# Altium footprint library Inductor_SMD.PcbLib: 37 footprints (part 2 of 3)
Each footprint in its own frame and in the unit in brackets; x right, y up, seen from the top. Pads: shape width x height; smd on the part's side, far side on the other; paste and mask are expansions set on the pad; w line width, h text height; cw(c..) or ccw(c..) is an arc to the next point about the centre after c.
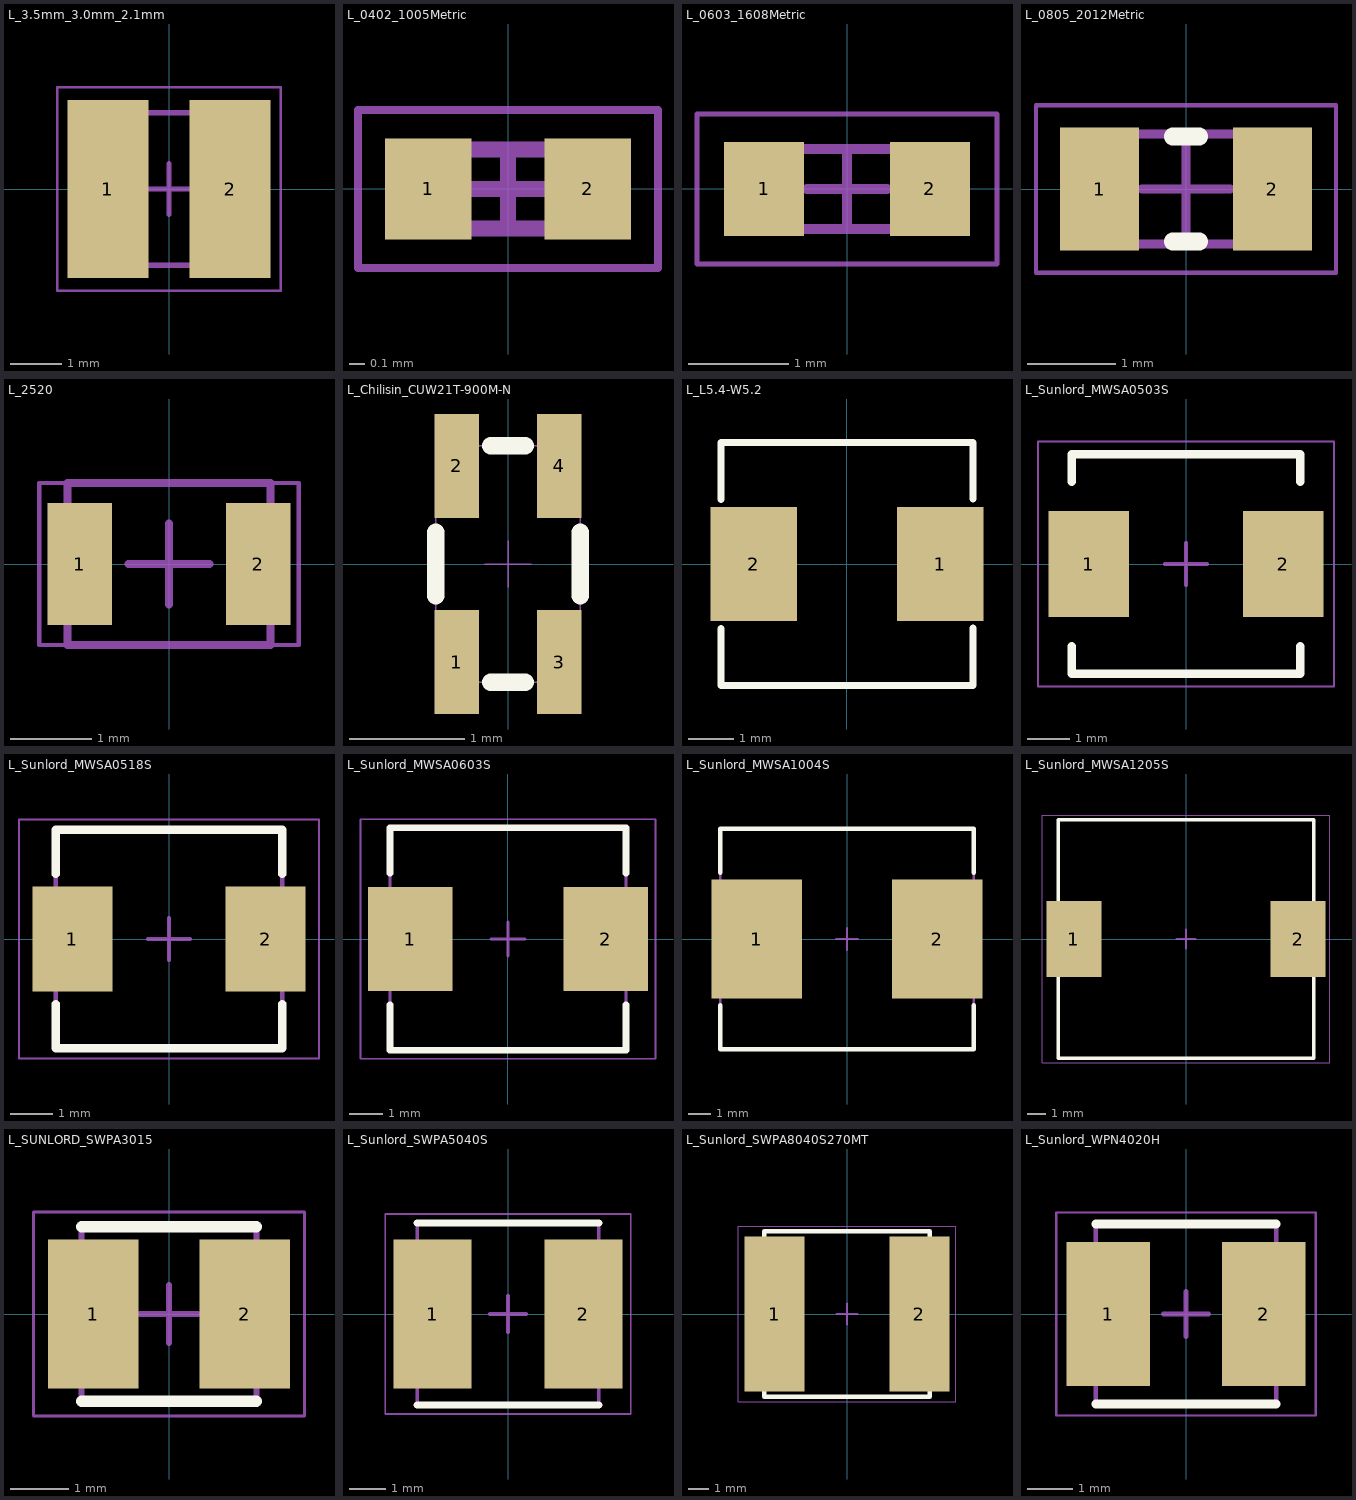
[diagram p1: the footprints below, top view; thin cyan lines are the x and y axes]

## L_3.5mm_3.0mm_2.1mm [mm] "Precision Wire Wound Inductor, 2-Leads, Body 3.50x3.00mm, IPC Medium Density"
height 2.1
pads (2):
  rect 1.6x3.5 smd: 1(-1.2,0) 2(1.2,0)
Mechanical 13:
  lines w0.1: -1.75,-1.5 1.75,-1.5 1.75,1.5 -1.75,1.5 -1.75,-1.5
Mechanical 15:
  lines w0.05: -2.2,-2 2.2,-2 2.2,2 -2.2,2 -2.2,-2
  lines w0.1: -0.5,0 0.5,0 ; 0,-0.5 0,0.5
3D body "INDP3530X21N.step": height 2.2, standoff 0, extent -1.85,-1.5 1.85,1.5

## L_0402_1005Metric [mm] "Chip Inductor, 2-Leads, Body 1.00x0.50mm, IPC Medium Density"
height 0.5
pads (2):
  rect 0.55x0.64 smd: 1(-0.505,0) 2(0.505,0)
Mechanical 13:
  lines w0.1: -0.5,-0.25 -0.5,0.25 0.5,0.25 0.5,-0.25 -0.5,-0.25
Mechanical 15:
  lines w0.05: -0.95,-0.5 -0.95,0.5 0.95,0.5 0.95,-0.5 -0.95,-0.5
  lines w0.1: -0.25,0 0.25,0 ; 0,-0.25 0,0.25
3D body: height 0.5, standoff 0, extent -0.3,-0.25 0.3,0.25
3D body: height 0.5, standoff 0, extent -0.5,-0.25 -0.3,0.25
3D body: height 0.5, standoff 0, extent 0.3,-0.25 0.5,0.25

## L_0603_1608Metric [mm] "Chip Inductor, 2-Leads, Body 1.60x0.80mm, IPC Medium Density"
height 0.8
pads (2):
  rect 0.8x0.94 smd: 1(-0.83,0) 2(0.83,0)
Mechanical 13:
  lines w0.1: -0.8,-0.4 -0.8,0.4 0.8,0.4 0.8,-0.4 -0.8,-0.4
Mechanical 15:
  lines w0.05: -1.5,-0.75 -1.5,0.75 1.5,0.75 1.5,-0.75 -1.5,-0.75
  lines w0.1: -0.4,0 0.4,0 ; 0,-0.4 0,0.4
3D body: height 0.8, standoff 0, extent -0.5,-0.4 0.5,0.4
3D body: height 0.8, standoff 0, extent -0.8,-0.4 -0.5,0.4
3D body: height 0.8, standoff 0, extent 0.5,-0.4 0.8,0.4

## L_0805_2012Metric [mm] "Chip Inductor, 2-Leads, Body 2.00x1.25mm, IPC Medium Density"
height 0.9
pads (2):
  rect 0.9x1.39 smd: 1(-0.98,0) 2(0.98,0)
Top Overlay:
  lines w0.2: -0.15,-0.595 0.15,-0.595 ; -0.15,0.595 0.15,0.595
Mechanical 13:
  lines w0.1: -1,-0.625 -1,0.625 1,0.625 1,-0.625 -1,-0.625
Mechanical 15:
  lines w0.05: -1.7,-0.95 -1.7,0.95 1.7,0.95 1.7,-0.95 -1.7,-0.95
  lines w0.1: -0.5,0 0.5,0 ; 0,-0.5 0,0.5
3D body: height 0.9, standoff 0, extent -0.6,-0.625 0.6,0.625
3D body: height 0.9, standoff 0, extent -1,-0.625 -0.6,0.625
3D body: height 0.9, standoff 0, extent 0.6,-0.625 1,0.625

## L_2520 [mm] "Precision Wire Wound Inductor, 2-Leads, Body 2.50x2.00mm, IPC Medium Density"
height 1.2
pads (2):
  rect 0.8x1.5 smd: 1(-1.1,0) 2(1.1,0)
Mechanical 13:
  lines w0.1: -1.25,-1 1.25,-1 1.25,1 -1.25,1 -1.25,-1
Mechanical 15:
  lines w0.05: -1.6,-1 1.6,-1 1.6,1 -1.6,1 -1.6,-1
  lines w0.1: -0.5,0 0.5,0 ; 0,-0.5 0,0.5
3D body "User Library-INDM2520X190N.STEP": height 1.8, standoff 0, extent -1.25,-1 1.25,1

## L_Chilisin_CUW21T-900M-N [mm]
pads (4):
  rect 0.385x0.9 smd: 1(-0.443,-0.85) 2(-0.443,0.85) 3(0.443,-0.85) 4(0.443,0.85)
Top Overlay:
  lines w0.152: -0.625,-0.275 -0.625,0.275 ; -0.15,-1.025 0.15,-1.025 ; -0.15,1.025 0.15,1.025 ; 0.625,-0.275 0.625,0.275
Mechanical 13:
  lines w0.013: -0.625,-1.025 0.625,-1.025 0.625,1.025 -0.625,1.025 -0.625,-1.025
Mechanical 15:
  lines w0.013: -0.2,0 0.2,0 ; 0,-0.2 0,0.2
3D body: height 1.25, standoff 0, extent -0.625,-1.025 0.625,1.025

## L_L5.4-W5.2 [mm]
pads (2):
  rect 1.9x2.5 smd: 1(2.05,0) 2(-2.05,0)
Top Overlay:
  lines w0.152: -2.775,-1.42 -2.776,-2.676 2.776,-2.676 2.775,-1.41 ; -2.775,1.42 -2.776,2.676 2.776,2.676 2.775,1.43
3D body "L1.stp": height 1.6, standoff 0, extent -2.7,-2.6 2.7,2.6

## L_Sunlord_MWSA0503S [mm] "Precision Wire Wound Inductor, 2-Leads, Body 7.00x6.60mm, IPC Medium Density"
height 2.8
pads (2):
  rect 1.9x2.5 smd: 1(-2.3,0) 2(2.3,0)
Top Overlay:
  lines w0.2: -2.7,-1.95 -2.7,-2.6 2.7,-2.6 2.7,-1.95 ; -2.7,1.95 -2.7,2.6 2.7,2.6 2.7,1.95
Mechanical 15:
  lines w0.05: -3.5,-2.9 -3.5,2.9 3.5,2.9 3.5,-2.9 -3.5,-2.9
  lines w0.1: -0.5,0 0.5,0 ; 0,-0.5 0,0.5
3D body "L1.stp": height 1.6, standoff 0, extent -2.7,-2.6 2.7,2.6

## L_Sunlord_MWSA0518S [mm] "Precision Wire Wound Inductor, 2-Leads, Body 5.40x5.20mm, IPC Medium Density"
height 1.6
pads (2):
  rect 1.9x2.5 smd: 1(-2.3,0) 2(2.3,0)
Top Overlay:
  lines w0.2: -2.7,-1.55 -2.7,-2.6 2.7,-2.6 2.7,-1.55 ; -2.7,1.55 -2.7,2.6 2.7,2.6 2.7,1.55
Mechanical 13:
  lines w0.1: -2.7,-2.6 -2.7,2.6 2.7,2.6 2.7,-2.6 -2.7,-2.6
Mechanical 15:
  lines w0.05: -3.575,-2.85 -3.575,2.85 3.575,2.85 3.575,-2.85 -3.575,-2.85
  lines w0.1: -0.5,0 0.5,0 ; 0,-0.5 0,0.5
3D body "IND-SMD_L5.4-W5.2_FXL0530.stp": height 2.81, standoff 0, extent -2.7,-2.6 2.7,2.6

## L_Sunlord_MWSA0603S [mm] "Precision Wire Wound Inductor, 2-Leads, Body 7.00x6.60mm, IPC Medium Density"
height 2.8
pads (2):
  rect 2.5x3.1 smd: 1(-2.9,0) 2(2.9,0)
Top Overlay:
  lines w0.2: -3.5,-1.95 -3.5,-3.3 3.5,-3.3 3.5,-1.95 ; -3.5,1.95 -3.5,3.3 3.5,3.3 3.5,1.95
Mechanical 13:
  lines w0.1: -3.5,-3.3 3.5,-3.3 3.5,3.3 -3.5,3.3 -3.5,-3.3
Mechanical 15:
  lines w0.05: -4.375,-3.55 4.375,-3.55 4.375,3.55 -4.375,3.55 -4.375,-3.55
  lines w0.1: -0.5,0 0.5,0 ; 0,-0.5 0,0.5
3D body: height 2.8, standoff 0, extent -3.5,-3.3 3.5,3.3

## L_Sunlord_MWSA1004S [mm] "Precision Wire Wound Inductor, 2-Leads, Body 7.00x6.60mm, IPC Medium Density"
height 2.8
pads (2):
  rect 4.1x5.4 smd: 1(-4.1,0) 2(4.1,0)
Top Overlay:
  lines w0.2: -5.75,-3 -5.75,-5 5.75,-5 5.75,-3 ; -5.75,3 -5.75,5 5.75,5 5.75,3
Mechanical 13:
  lines w0.1: -5.75,-5 -5.75,5 5.75,5 5.75,-5 -5.75,-5
Mechanical 15:
  lines w0.05: -5.75,-5 -5.75,5 5.75,5 5.75,-5 -5.75,-5
  lines w0.1: -0.5,0 0.5,0 ; 0,-0.5 0,0.5
3D body "L1.stp": height 5.01, standoff 0, extent -5.75,-5 5.75,5

## L_Sunlord_MWSA1205S [mm] "Precision Wire Wound Inductor, 2-Leads, Body 13.45x12.60mm, IPC Medium Density"
height 4.8
pads (2):
  rect 2.9x4 smd: 1(-5.925,0) 2(5.925,0)
Top Overlay:
  lines w0.2: -6.75,-1.95 -6.75,-6.3 6.75,-6.3 6.75,-1.95 ; -6.75,1.95 -6.75,6.3 6.75,6.3 6.75,1.95
Mechanical 13:
  lines w0.1: -6.725,-6.3 -6.725,6.3 6.725,6.3 6.725,-6.3 -6.725,-6.3
Mechanical 15:
  lines w0.05: -7.6,-6.55 -7.6,6.55 7.6,6.55 7.6,-6.55 -7.6,-6.55
  lines w0.1: -0.5,0 0.5,0 ; 0,-0.5 0,0.5
3D body "srr1260-120m.stp": height 6, standoff 0, extent -6.25,-6.25 6.25,6.25

## L_SUNLORD_SWPA3015 [mm] "Molded Inductor, 2-Leads, Body 3.00x3.00mm, IPC Medium Density"
height 1.5
pads (2):
  rect 1.55x2.55 smd: 1(-1.3,0) 2(1.3,0)
Top Overlay:
  lines w0.2: -1.5,-1.5 1.5,-1.5 ; -1.5,1.5 1.5,1.5
Mechanical 13:
  lines w0.1: -1.5,-1.5 1.5,-1.5 1.5,1.5 -1.5,1.5 -1.5,-1.5
Mechanical 15:
  lines w0.05: -2.325,-1.75 2.325,-1.75 2.325,1.75 -2.325,1.75 -2.325,-1.75
  lines w0.1: -0.5,0 0.5,0 ; 0,-0.5 0,0.5
3D body "User Library-nr3015.STEP": height 1.45, standoff -0.04, extent -1.5,-1.5 1.5,1.5

## L_Sunlord_SWPA5040S [mm] "Precision Wire Wound Inductor, 2-Leads, Body 5.00x5.00mm, IPC Medium Density"
height 4
pads (2):
  rect 2.15x4.1 smd: 1(-2.075,0) 2(2.075,0)
Top Overlay:
  lines w0.2: -2.5,-2.5 2.5,-2.5 ; -2.5,2.5 2.5,2.5
Mechanical 13:
  lines w0.1: -2.5,-2.5 -2.5,2.5 2.5,2.5 2.5,-2.5 -2.5,-2.5
Mechanical 15:
  lines w0.05: -3.375,-2.75 -3.375,2.75 3.375,2.75 3.375,-2.75 -3.375,-2.75
  lines w0.1: -0.5,0 0.5,0 ; 0,-0.5 0,0.5
3D body "User Library-SRN5040.STEP": height 4, standoff 0, extent -2.5,-2.5 2.5,2.5

## L_Sunlord_SWPA8040S270MT [mm] "Precision Wire Wound Inductor, 2-Leads, Body 8.00x8.00mm, IPC Medium Density"
height 4.2
pads (2):
  rect 2.9x7.5 smd: 1(-3.5,0) 2(3.5,0)
Top Overlay:
  lines w0.2: -4,-3.6 -4,-4 4,-4 4,-3.6 ; -4,3.6 -4,4 4,4 4,3.6
Mechanical 13:
  lines w0.1: -4,-4 -4,4 4,4 4,-4 -4,-4
Mechanical 15:
  lines w0.05: -5.25,-4.25 -5.25,4.25 5.25,4.25 5.25,-4.25 -5.25,-4.25
  lines w0.1: -0.5,0 0.5,0 ; 0,-0.5 0,0.5
3D body "INDP8080X42N.step": height 4.3, standoff 0, extent -4.1,-4 4.1,4

## L_Sunlord_WPN4020H [mm] "Precision Wire Wound Inductor, 2-Leads, Body 4.00x4.00mm, IPC Medium Density"
height 2
pads (2):
  rect 1.85x3.2 smd: 1(-1.725,0) 2(1.725,0)
Top Overlay:
  lines w0.2: -2,-2 2,-2 ; -2,2 2,2
Mechanical 13:
  lines w0.1: -2,-2 -2,2 2,2 2,-2 -2,-2
Mechanical 15:
  lines w0.05: -2.875,-2.25 -2.875,2.25 2.875,2.25 2.875,-2.25 -2.875,-2.25
  lines w0.1: -0.5,0 0.5,0 ; 0,-0.5 0,0.5
3D body "User Library-SRP-4020 Inductor.STEP": height 1.9, standoff -0.05, extent -2.15,-2 2.15,2